# Altium footprint library LIBRARIE_EMILE.PcbLib: 1 footprints
Each footprint in its own frame and in the unit in brackets; x right, y up, seen from the top. Pads: shape width x height; smd on the part's side, far side on the other; paste and mask are expansions set on the pad; w line width, h text height; cw(c..) or ccw(c..) is an arc to the next point about the centre after c.
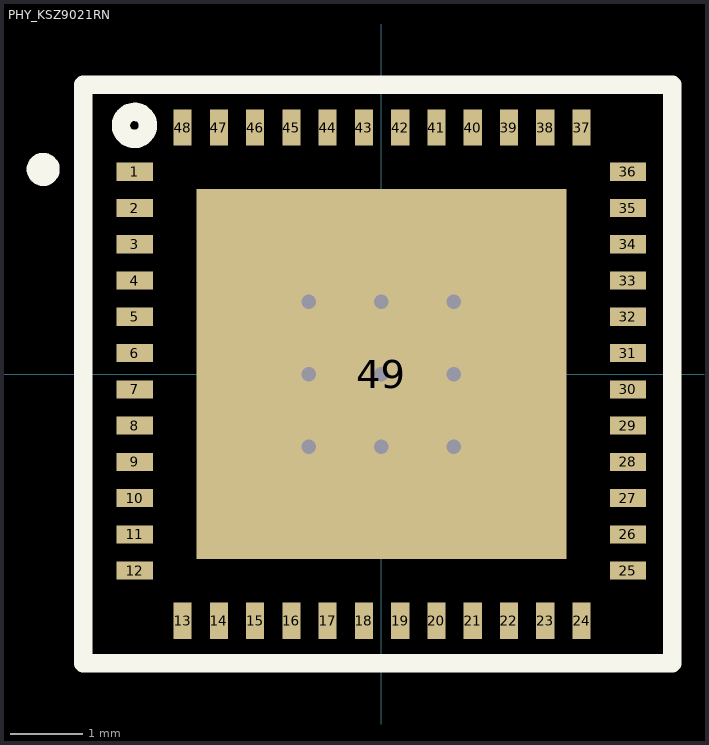
[diagram p0: the footprint, top view; thin cyan lines are the x and y axes]

## PHY_KSZ9021RN [mm] "QFN, 48-Leads, Body 7,00x7,00mm, Pitch 0,50mm, Thermal Pad 5,10x5,10mm, IPC Medium Density"
height 0.9
pads (49):
  rect 0.5x0.25 smd mask+0.05: 1(-3.4,2.79) 2(-3.4,2.29) 3(-3.4,1.79) 4(-3.4,1.29) 5(-3.4,0.79) 6(-3.4,0.29) 7(-3.4,-0.21) 8(-3.4,-0.71) 9(-3.4,-1.21) 10(-3.4,-1.71) 11(-3.4,-2.21) 12(-3.4,-2.71) 25(3.4,-2.71) 26(3.4,-2.21) 27(3.4,-1.71) 28(3.4,-1.21) 29(3.4,-0.71) 30(3.4,-0.21) 31(3.4,0.29) 32(3.4,0.79) 33(3.4,1.29) 34(3.4,1.79) 35(3.4,2.29) 36(3.4,2.79)
  rect 0.25x0.5 smd mask+0.05: 13(-2.74,-3.4) 14(-2.24,-3.4) 15(-1.74,-3.4) 16(-1.24,-3.4) 17(-0.74,-3.4) 18(-0.24,-3.4) 19(0.26,-3.4) 20(0.76,-3.4) 21(1.26,-3.4) 22(1.76,-3.4) 23(2.26,-3.4) 24(2.76,-3.4) 37(2.76,3.4) 38(2.26,3.4) 39(1.76,3.4) 40(1.26,3.4) 41(0.76,3.4) 42(0.26,3.4) 43(-0.24,3.4) 44(-0.74,3.4) 45(-1.24,3.4) 46(-1.74,3.4) 47(-2.24,3.4) 48(-2.74,3.4)
  rect 5.1x5.1 smd mask+0.05: 49(0,0)
via 1,-1 diameter 0.5 hole 0.2
via 0,-1 diameter 0.5 hole 0.2
via -1,-1 diameter 0.5 hole 0.2
via 1,0 diameter 0.5 hole 0.2
via 0,0 diameter 0.5 hole 0.2
via -1,0 diameter 0.5 hole 0.2
via 1,1 diameter 0.5 hole 0.2
via 0,1 diameter 0.5 hole 0.2
via -1,1 diameter 0.5 hole 0.2
Top Overlay:
  circle w0.254: c-4.663,2.823 r0.101
  circle w0.254: c-3.404,3.429 r0.186
  lines w0.254: -4.11,-3.984 4.01,-3.984 4.01,3.987 -4.11,3.987 -4.11,-3.984
3D body: height 0.9, standoff 0, extent -3.525,-3.525 3.525,3.525